# EAGLE library part ADG333ABNZ (library ic)
ADG333ABNZ Analog selector 4 channel, +-44 V Connects B on logical 0, and A on logical 1
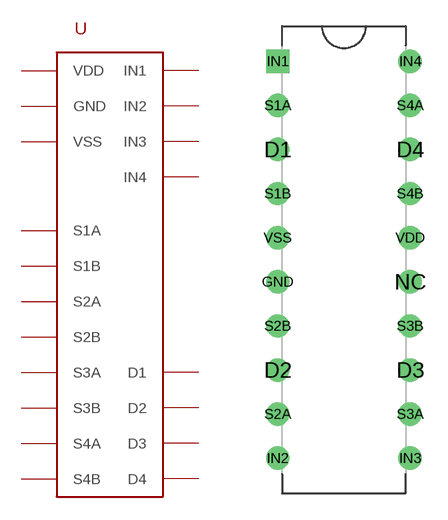
[diagram p1: symbol with the pads of DIP762W53P254L2591H508Q20B; footprint DIP762W53P254L2591H508Q20B]

Designator prefix -

## ADG333ABNZADG333ABNZ (LINK: https://www.mouser.se/ProductDetail/Analog-Devices/ADG333ABNZ?qs=BpaRKvA4VqF%252BfFFtqT1yFg%3D%3D; MPN: ADG333ABNZ; SUPPLIER: Mouser)  [DIP762W53P254L2591H508Q20B]
D1  D1
D2  D2
D3  D3
D4  D4
GND  GND  pwr
IN1  IN1
IN2  IN2
IN3  IN3
IN4  IN4
S1A  S1A
S1B  S1B
S2A  S2A
S2B  S2B
S3A  S3A
S3B  S3B
S4A  S4A
S4B  S4B
VDD  VDD  pwr
VSS  VSS  pwr

## Footprint DIP762W53P254L2591H508Q20B (pad centres in mm)
20-DIP, 2.54 mm (0.10 in) pitch, 7.62 mm (0.30 in) span, 25.91 X 6.61 X 5.08 mm body 20-pin DIP package with 2.54 mm (0.10 in) pitch, 7.62 mm (0.30 in) span with body size 25.91 X 6.61 X 5.08 mm
drill 0.743 pad 1.343: D1 -3.81,6.35; D2 -3.81,-6.35; D3 3.81,-6.35; D4 3.81,6.35; GND -3.81,-1.27; IN2 -3.81,-11.43; IN3 3.81,-11.43; IN4 3.81,11.43; NC 3.81,-1.27; S1A -3.81,8.89; S1B -3.81,3.81; S2A -3.81,-8.89; S2B -3.81,-3.81; S3A 3.81,-8.89; S3B 3.81,-3.81; S4A 3.81,8.89; S4B 3.81,3.81; VDD 3.81,1.27; VSS -3.81,1.27
drill 0.743 pad 1.343 square: IN1 -3.81,11.43